# Altium footprint library QFN-12(3.0X3.0).PcbLib: 1 footprints
Each footprint in its own frame and in the unit in brackets; x right, y up, seen from the top. Pads: shape width x height; smd on the part's side, far side on the other; paste and mask are expansions set on the pad; w line width, h text height; cw(c..) or ccw(c..) is an arc to the next point about the centre after c.
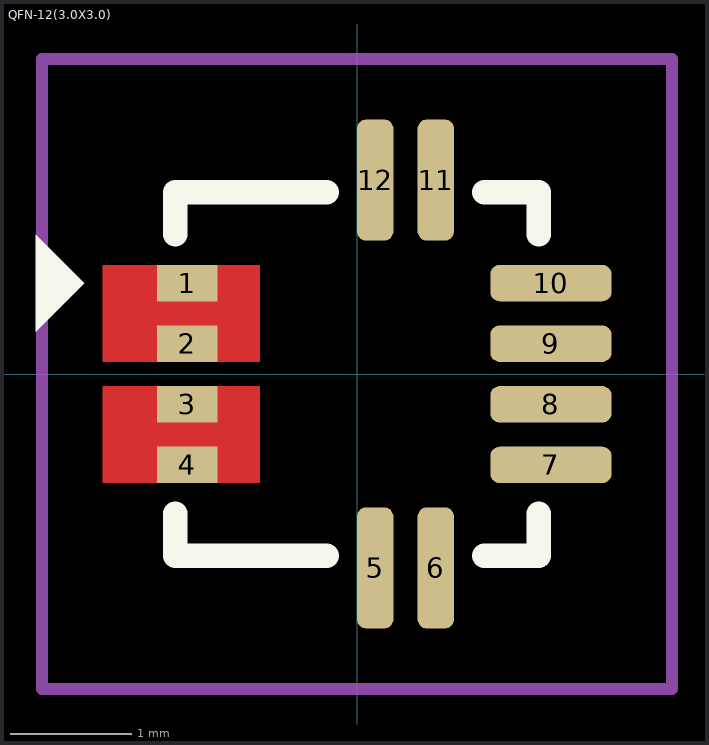
[diagram p0: the footprint, top view; thin cyan lines are the x and y axes]

## QFN-12(3.0X3.0) [mm]
pads (12):
  rect 0.5x0.3 smd: 1(-1.4,0.75) 2(-1.4,0.25) 3(-1.4,-0.25) 4(-1.4,-0.75)
  rrect50% 0.3x1 smd: 5(0.15,-1.6) 6(0.65,-1.6) 11(0.65,1.6) 12(0.15,1.6)
  rrect50% 1x0.3 smd: 7(1.6,-0.75) 8(1.6,-0.25) 9(1.6,0.25) 10(1.6,0.75)
Top Layer:
  rectangle: -2.1,0.1 -0.8,0.9
  rectangle: -2.1,-0.9 -0.8,-0.1
Top Overlay:
  region: -2.65,0.35 -2.65,1.15 -2.25,0.75
  lines w0.2: -1.5,-1.15 -1.5,-1.5 -0.25,-1.5 ; -1.5,1.15 -1.5,1.5 -0.25,1.5 ; 1.05,-1.5 1.5,-1.5 1.5,-1.15 ; 1.05,1.5 1.5,1.5 1.5,1.15
Top Courtyard:
  lines w0.1: -2.6,-2.6 2.6,-2.6 2.6,2.6 -2.6,2.6 -2.6,-2.6
3D body "ALEG-EX-12_V.stp": height 0.81, standoff 0.01, extent -1.5,-1.5 1.5,1.5